# Altium footprint library 74HC245N.PcbLib: 1 footprints
Each footprint in its own frame and in the unit in brackets; x right, y up, seen from the top. Pads: shape width x height; smd on the part's side, far side on the other; paste and mask are expansions set on the pad; w line width, h text height; cw(c..) or ccw(c..) is an arc to the next point about the centre after c.
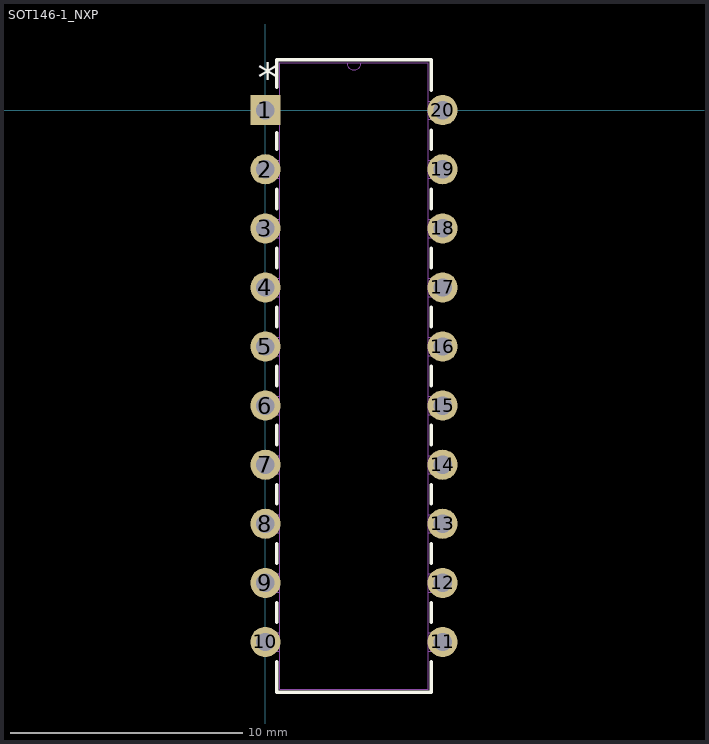
[diagram p0: the footprint, top view; thin cyan lines are the x and y axes]

## SOT146-1_NXP [mil]
pads (20):
  rect 51x51 hole 31 mask+0: 1(0,0)
  round 51 hole 31 mask+0: 2(0,-100) 3(0,-200) 4(0,-300) 5(0,-400) 6(0,-500) 7(0,-600) 8(0,-700) 9(0,-800) 10(0,-900) 11(300,-900) 12(300,-800) 13(300,-700) 14(300,-600) 15(300,-500) 16(300,-400) 17(300,-300) 18(300,-200) 19(300,-100) 20(300,0)
Top Overlay:
  lines w6: 19,-933.6 19,-985 281,-985 281,-933.6 ; 19,-866.4 19,-833.6 ; 19,-766.4 19,-733.6 ; 19,-666.4 19,-633.6 ; 19,-566.4 19,-533.6 ; 19,-466.4 19,-433.6 ; 19,-366.4 19,-333.6 ; 19,-266.4 19,-233.6 ; 19,-166.4 19,-133.6 ; 19,-66.4 19,-38.6 ; 19,38.6 19,85 281,85 281,33.6 ; 281,-866.4 281,-833.6 ; 281,-766.4 281,-733.6 ; 281,-666.4 281,-633.6 ; 281,-566.4 281,-533.6 ; 281,-466.4 281,-433.6 ; 281,-366.4 281,-333.6 ; 281,-266.4 281,-233.6 ; 281,-166.4 281,-133.6 ; 281,-66.4 281,-33.6
  text "*" at -12.5,30.5 h50
Mechanical 13:
  lines w0: 138,80 ccw(c150,80) 162,80
  lines w1: -15.5,-915.5 -15.5,-884.5 24,-884.5 24,-915.5 -15.5,-915.5 ; -15.5,-815.5 -15.5,-784.5 24,-784.5 24,-815.5 -15.5,-815.5 ; -15.5,-715.5 -15.5,-684.5 24,-684.5 24,-715.5 -15.5,-715.5 ; -15.5,-615.5 -15.5,-584.5 24,-584.5 24,-615.5 -15.5,-615.5 ; -15.5,-515.5 -15.5,-484.5 24,-484.5 24,-515.5 -15.5,-515.5 ; -15.5,-415.5 -15.5,-384.5 24,-384.5 24,-415.5 -15.5,-415.5 ; -15.5,-315.5 -15.5,-284.5 24,-284.5 24,-315.5 -15.5,-315.5 ; -15.5,-215.5 -15.5,-184.5 24,-184.5 24,-215.5 -15.5,-215.5 ; -15.5,-115.5 -15.5,-84.5 24,-84.5 24,-115.5 -15.5,-115.5 ; -15.5,-15.5 -15.5,15.5 24,15.5 24,-15.5 -15.5,-15.5 ; 24,-980 276,-980 276,80 24,80 24,-980 ; 276,-915.5 276,-884.5 315.5,-884.5 315.5,-915.5 276,-915.5 ; 276,-815.5 276,-784.5 315.5,-784.5 315.5,-815.5 276,-815.5 ; 276,-715.5 276,-684.5 315.5,-684.5 315.5,-715.5 276,-715.5 ; 276,-615.5 276,-584.5 315.5,-584.5 315.5,-615.5 276,-615.5 ; 276,-515.5 276,-484.5 315.5,-484.5 315.5,-515.5 276,-515.5 ; 276,-415.5 276,-384.5 315.5,-384.5 315.5,-415.5 276,-415.5 ; 276,-315.5 276,-284.5 315.5,-284.5 315.5,-315.5 276,-315.5 ; 276,-215.5 276,-184.5 315.5,-184.5 315.5,-215.5 276,-215.5 ; 276,-115.5 276,-84.5 315.5,-84.5 315.5,-115.5 276,-115.5 ; 276,-15.5 276,15.5 315.5,15.5 315.5,-15.5 276,-15.5
  text "*" at 21.5,-25 h50
3D body "SOT146-1_NXP.step": height 170.12, standoff -100, extent -5,-980 315,80